# Altium footprint library 1.11-贴片EMI静噪三端滤波电容.PcbLib: 2 footprints
Each footprint in its own frame and in the unit in brackets; x right, y up, seen from the top. Pads: shape width x height; smd on the part's side, far side on the other; paste and mask are expansions set on the pad; w line width, h text height; cw(c..) or ccw(c..) is an arc to the next point about the centre after c.
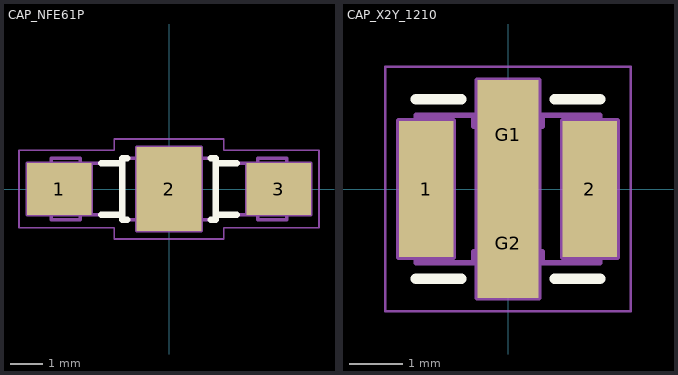
[diagram p0: the footprints below, top view; thin cyan lines are the x and y axes]

## CAP_NFE61P [mm] "EMI Filter, Body 6.8mm X 1.6mm      [ PCBѧϰȺ514746572 ]"
height 1.9
pads (3):
  rect 2x1.6 smd: 1(-3.4,0) 3(3.4,0)
  rect 2x2.6 smd: 2(0,0)
Top Overlay:
  lines w0.2: -2.1,-0.8 -1.45,-0.8 ; -2.1,0.8 -1.45,0.8 ; -1.3,-0.95 -1.45,-0.95 -1.45,0.95 -1.3,0.95 ; 1.3,-0.95 1.45,-0.95 1.45,0.95 1.3,0.95 ; 1.45,-0.8 2.1,-0.8 ; 1.45,0.8 2.1,0.8
Mechanical 8:
  lines w0.1: -3.9,0 -3.4,0 ; -3.4,-0.5 -3.4,0 ; -3.4,0.5 -3.4,0 ; -2.9,0 -3.4,0 ; -0.5,0 0,0 ; 0,-0.5 0,0 ; 0,0.5 0,0 ; 0.5,0 0,0 ; 2.9,0 3.4,0 ; 3.4,-0.5 3.4,0 ; 3.4,0.5 3.4,0 ; 3.9,0 3.4,0 ; -4.4,-0.8 -4.4,0.8 -2.4,0.8 -2.4,-0.8 -4.4,-0.8 ; -1,-1.3 -1,1.3 1,1.3 1,-1.3 -1,-1.3 ; 2.4,-0.8 2.4,0.8 4.4,0.8 4.4,-0.8 2.4,-0.8
Mechanical 14:
  lines w0.1: -2.75,-0.8 -1.45,-0.8 ; -2.75,0.8 -1.45,0.8 ; 1.45,-0.8 2.75,-0.8 ; 1.45,0.8 2.75,0.8 ; -3.65,-0.95 -2.75,-0.95 -2.75,0.95 -3.65,0.95 -3.65,-0.95 ; -1.45,-0.95 -1.45,0.95 1.45,0.95 1.45,-0.95 -1.45,-0.95 ; 2.75,-0.95 2.75,0.95 3.65,0.95 3.65,-0.95 2.75,-0.95
Mechanical 15:
  lines w0.05: -4.65,-1.2 -1.7,-1.2 -1.7,-1.55 1.7,-1.55 1.7,-1.2 4.65,-1.2 4.65,1.2 1.7,1.2 1.7,1.55 -1.7,1.55 -1.7,1.2 -4.65,1.2 -4.65,-1.2
3D body "p260-200.stp": height 0.01, standoff 0, extent -1,-1.3 1,1.3
3D body "p200-160.stp": height 0.01, standoff 0, extent 2.4,-0.8 4.4,0.8
3D body "p200-160.stp": height 0.01, standoff 0, extent -4.4,-0.8 -2.4,0.8
3D body "CAPC_MURATA_NFE61P.stp": height 1.9, standoff 0, extent -3.65,-0.95 3.65,0.95

## CAP_X2Y_1210 [mm] "EMIFIL Chip Capacitor, Body 3.175x2.489mm      [ PCBѧϰȺ514746572 ]"
height 1.778
pads (4):
  rect 1.02x2.54 smd: 1(-1.525,0) 2(1.525,0)
  rect 1.14x2.03 smd: G1(0,1.015) G2(0,-1.015)
Top Overlay:
  lines w0.2: -1.714,-1.672 -0.87,-1.672 ; -1.714,1.672 -0.87,1.672 ; 0.87,-1.672 1.714,-1.672 ; 0.87,1.672 1.714,1.672
Mechanical 8:
  lines w0.1: -1.775,0 -1.525,0 ; -1.525,-0.25 -1.525,0 ; -1.525,0.25 -1.525,0 ; -1.275,0 -1.525,0 ; -0.57,0 0.57,0 ; -0.25,-1.015 0,-1.015 ; -0.25,1.015 0,1.015 ; -0.177,-0.177 0,0 ; -0.177,0.177 0,0 ; 0,-1.265 0,-1.015 ; 0,-0.765 0,-1.015 ; 0,0.765 0,1.015 ; 0,1.265 0,1.015 ; 0.177,-0.177 0,0 ; 0.177,0.177 0,0 ; 0.25,-1.015 0,-1.015 ; 0.25,1.015 0,1.015 ; 1.275,0 1.525,0 ; 1.525,-0.25 1.525,0 ; 1.525,0.25 1.525,0 ; 1.775,0 1.525,0 ; -2.035,-1.27 -1.015,-1.27 -1.015,1.27 -2.035,1.27 -2.035,-1.27 ; -0.57,-2.03 -0.57,2.03 0.57,2.03 0.57,-2.03 -0.57,-2.03 ; 1.015,-1.27 2.035,-1.27 2.035,1.27 1.015,1.27 1.015,-1.27
Mechanical 14:
  lines w0.1: -0.635,-1.372 -0.635,-1.172 0.635,-1.172 0.635,-1.372 ; -0.635,1.372 -0.635,1.172 0.635,1.172 0.635,1.372 ; -1.714,-1.372 -1.714,1.372 1.714,1.372 1.714,-1.372 -1.714,-1.372
Mechanical 15:
  lines w0.05: -2.285,-2.28 2.285,-2.28 2.285,2.28 -2.285,2.28 -2.285,-2.28
3D body "CAPC_JOHANSON_X2Y_1210.stp": height 1.78, standoff 0, extent -1.714,-1.371 1.715,1.372
3D body "p254-100.stp": height 0.01, standoff 0, extent -2.025,-1.27 -1.025,1.27
3D body "p254-100.stp": height 0.01, standoff 0, extent 1.025,-1.27 2.025,1.27
3D body "p200-115.stp": height 0.01, standoff 0, extent -0.575,0.015 0.575,2.015
3D body "p200-115.stp": height 0.01, standoff 0, extent -0.575,-2.015 0.575,-0.015